# Altium schematic symbol library Single 1input NOT.SchLib: 1 symbol
Pins are listed as number, name and electrical type; pins without a type are passive.

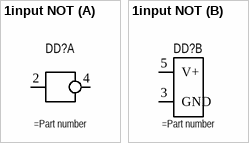
[diagram p0: symbol 1input NOT]

## 1input NOT
designator DD?
Single 1-Input NOT Gate
part A pins: 2, 4
part B pins: 3 GND, 5 V+